# EAGLE library part TMP102 (library PP_Sensors)
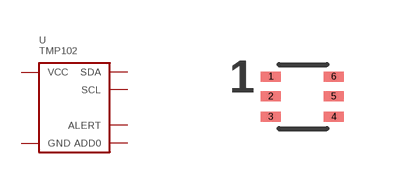
[diagram p9: symbol with the pads of TMP102_SOT-553-6; footprint TMP102_SOT-553-6]

Designator prefix U

## TMP102AIDRLR  [TMP102_SOT-553-6]
1  SCL
2  GND
3  ALERT
4  ADD0
5  VCC
6  SDA

## Footprint TMP102_SOT-553-6 (pad centres in mm)
smd 0.508 x 0.249: 1 -0.8,0.498; 2 -0.8,0.003; 3 -0.8,-0.506; 4 0.776,-0.506; 5 0.776,0.003; 6 0.776,0.498